# Altium schematic symbol library USL00-30L-C.Schlib: 1 symbol
Pins are listed as number, name and electrical type; pins without a type are passive.

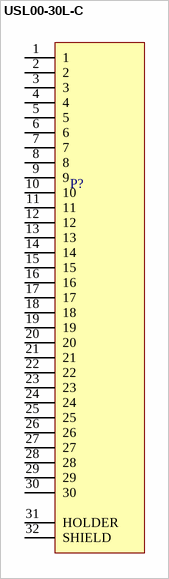
[diagram p0: symbol USL00-30L-C]

## USL00-30L-C
designator P?
0.4mm pitch connector for micro coaxial cable
pins: 1, 2, 3, 4, 5, 6, 7, 8, 9, 10, 11, 12, 13, 14, 15, 16, 17, 18, 19, 20, 21, 22, 23, 24, 25, 26, 27, 28, 29, 30, 31 HOLDER, 32 SHIELD